# Altium integrated library Sensor.IntLib: 12 symbols
Pins are listed as number, name and electrical type; pins without a type are passive.

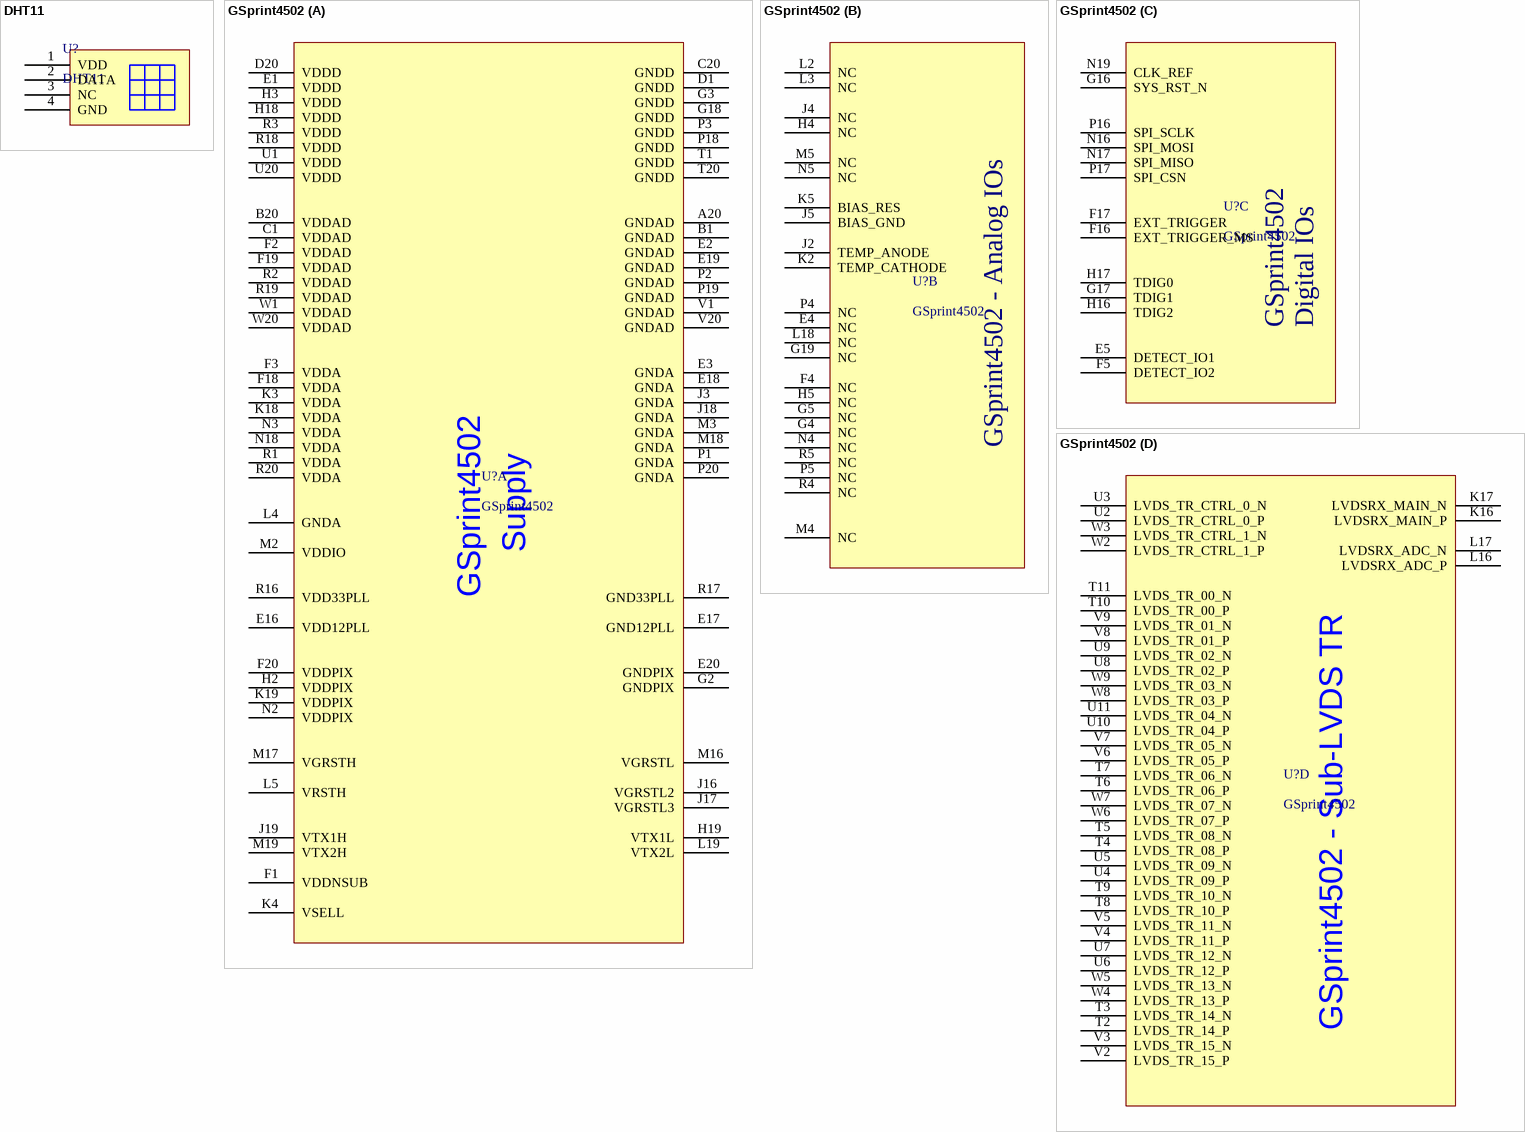
[diagram p0: symbols DHT11 to GSprint4502]

## DHT11
designator U?
温湿度传感器
footprint DHT11
pins: 1 VDD, 2 DATA, 3 NC, 4 GND

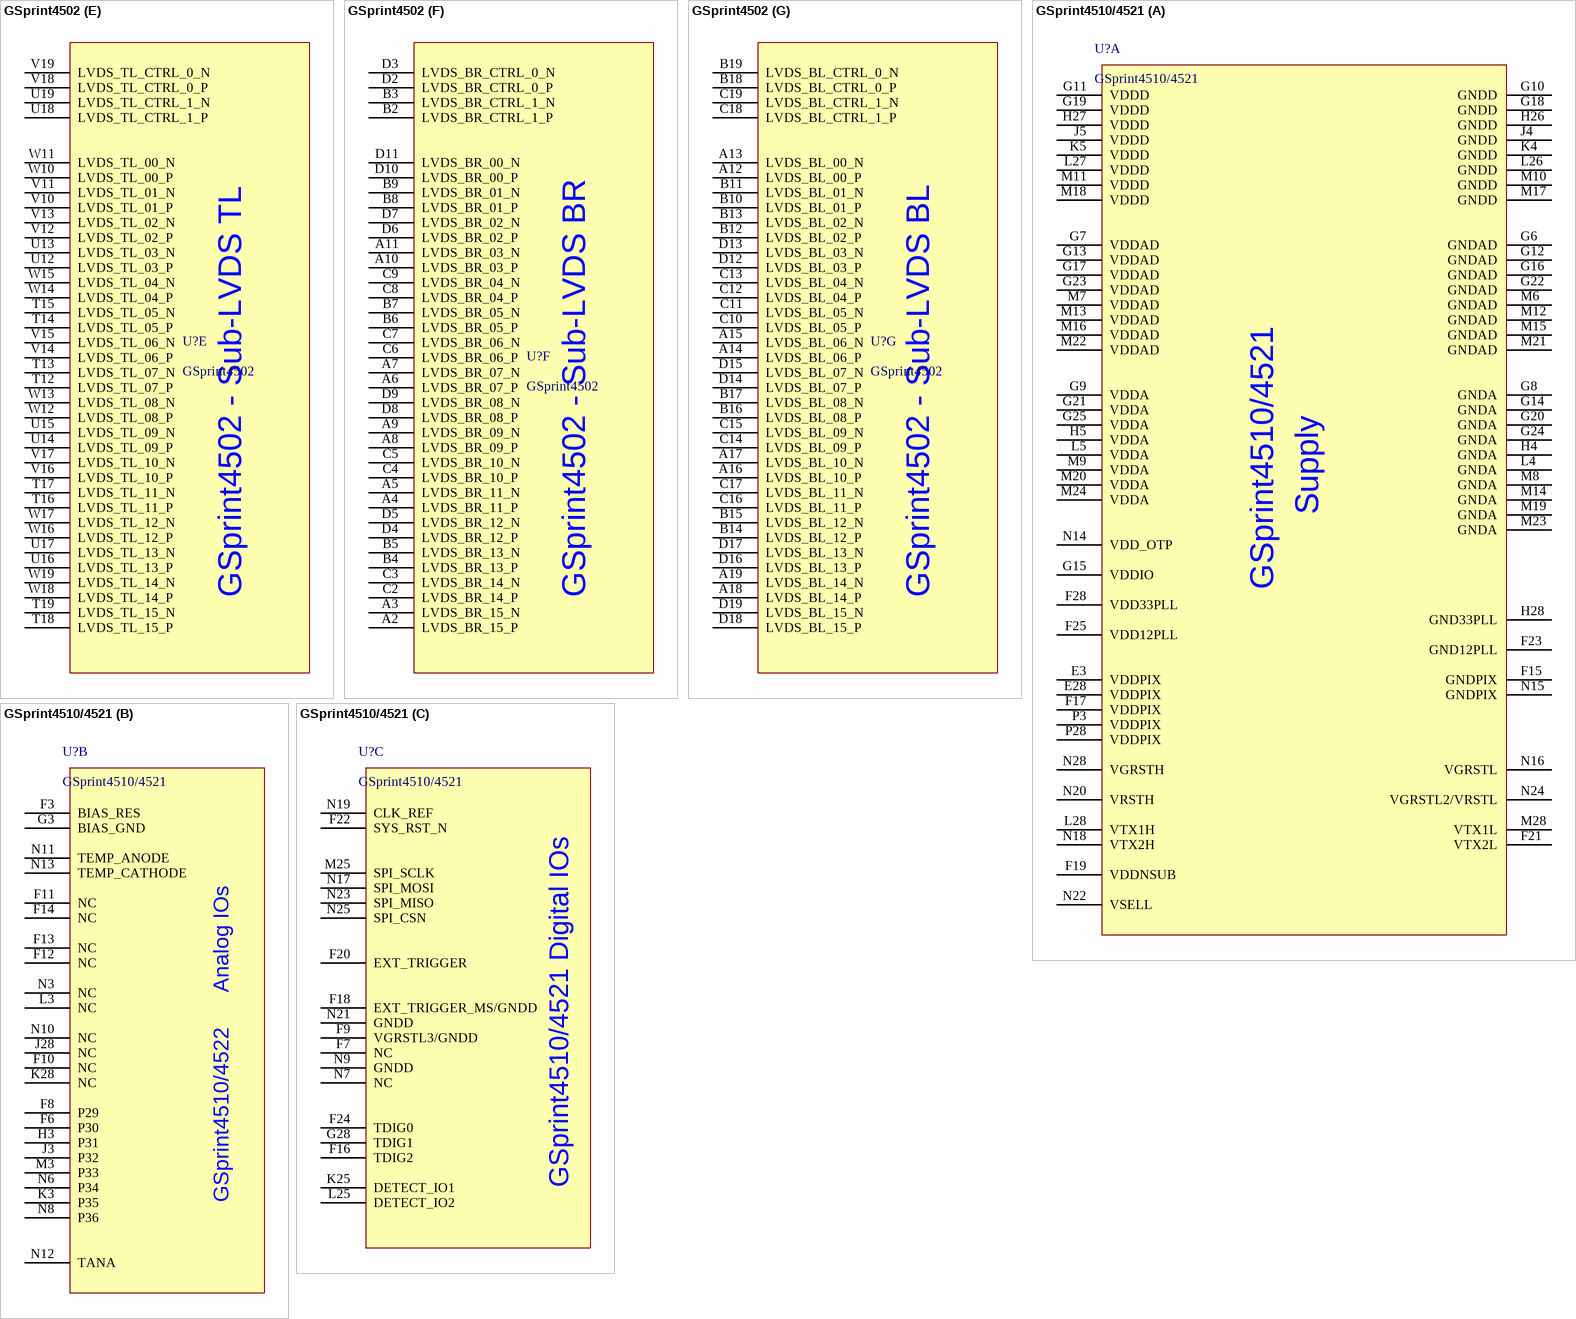
[diagram p1: symbols GSprint4502 to GSprint4510/4521]

## GSprint4502
designator U?
footprint GSprint4502 (BGA, 380-Leads, Body 28.00x29.40mmx3.50mm, Pitch 1.27mm)
part A pins: A20 GNDAD, B1 GNDAD, B20 VDDAD, C1 VDDAD, C20 GNDD, D1 GNDD, D20 VDDD, E1 VDDD, E2 GNDAD, E3 GNDA, E16 VDD12PLL, E17 GND12PLL, E18 GNDA, E19 GNDAD, E20 GNDPIX, F1 VDDNSUB, F2 VDDAD, F3 VDDA, F18 VDDA, F19 VDDAD, F20 VDDPIX, G2 GNDPIX, G3 GNDD, G18 GNDD, H2 VDDPIX, H3 VDDD, H18 VDDD, H19 VTX1L, J3 GNDA, J16 VGRSTL2, J17 VGRSTL3, J18 GNDA, J19 VTX1H, K3 VDDA, K4 VSELL, K18 VDDA, K19 VDDPIX, L4 GNDA, L5 VRSTH, L19 VTX2L, M2 VDDIO, M3 GNDA, M16 VGRSTL, M17 VGRSTH, M18 GNDA, M19 VTX2H, N2 VDDPIX, N3 VDDA, N18 VDDA, P1 GNDA, P2 GNDAD, P3 GNDD, P18 GNDD, P19 GNDAD, P20 GNDA, R1 VDDA, R2 VDDAD, R3 VDDD, R16 VDD33PLL, R17 GND33PLL, R18 VDDD, R19 VDDAD, R20 VDDA, T1 GNDD, T20 GNDD, U1 VDDD, U20 VDDD, V1 GNDAD, V20 GNDAD, W1 VDDAD, W20 VDDAD
part B pins: E4 NC, F4 NC, G4 NC, G5 NC, G19 NC, H4 NC, H5 NC, J2 TEMP_ANODE, J4 NC, J5 BIAS_GND, K2 TEMP_CATHODE, K5 BIAS_RES, L2 NC, L3 NC, L18 NC, M4 NC, M5 NC, N4 NC, N5 NC, P4 NC, P5 NC, R4 NC, R5 NC
part C pins: E5 DETECT_IO1, F5 DETECT_IO2, F16 EXT_TRIGGER_MS, F17 EXT_TRIGGER, G16 SYS_RST_N, G17 TDIG1, H16 TDIG2, H17 TDIG0, N16 SPI_MOSI, N17 SPI_MISO, N19 CLK_REF, P16 SPI_SCLK, P17 SPI_CSN
part D pins: K16 LVDSRX_MAIN_P, K17 LVDSRX_MAIN_N, L16 LVDSRX_ADC_P, L17 LVDSRX_ADC_N, T2 LVDS_TR_14_P, T3 LVDS_TR_14_N, T4 LVDS_TR_08_P, T5 LVDS_TR_08_N, T6 LVDS_TR_06_P, T7 LVDS_TR_06_N, T8 LVDS_TR_10_P, T9 LVDS_TR_10_N, T10 LVDS_TR_00_P, T11 LVDS_TR_00_N, U2 LVDS_TR_CTRL_0_P, U3 LVDS_TR_CTRL_0_N, U4 LVDS_TR_09_P, U5 LVDS_TR_09_N, U6 LVDS_TR_12_P, U7 LVDS_TR_12_N, U8 LVDS_TR_02_P, U9 LVDS_TR_02_N, U10 LVDS_TR_04_P, U11 LVDS_TR_04_N, V2 LVDS_TR_15_P, V3 LVDS_TR_15_N, V4 LVDS_TR_11_P, V5 LVDS_TR_11_N, V6 LVDS_TR_05_P, V7 LVDS_TR_05_N, V8 LVDS_TR_01_P, V9 LVDS_TR_01_N, W2 LVDS_TR_CTRL_1_P, W3 LVDS_TR_CTRL_1_N, W4 LVDS_TR_13_P, W5 LVDS_TR_13_N, W6 LVDS_TR_07_P, W7 LVDS_TR_07_N, W8 LVDS_TR_03_P, W9 LVDS_TR_03_N
part E pins: T12 LVDS_TL_07_P, T13 LVDS_TL_07_N, T14 LVDS_TL_05_P, T15 LVDS_TL_05_N, T16 LVDS_TL_11_P, T17 LVDS_TL_11_N, T18 LVDS_TL_15_P, T19 LVDS_TL_15_N, U12 LVDS_TL_03_P, U13 LVDS_TL_03_N, U14 LVDS_TL_09_P, U15 LVDS_TL_09_N, U16 LVDS_TL_13_P, U17 LVDS_TL_13_N, U18 LVDS_TL_CTRL_1_P, U19 LVDS_TL_CTRL_1_N, V10 LVDS_TL_01_P, V11 LVDS_TL_01_N, V12 LVDS_TL_02_P, V13 LVDS_TL_02_N, V14 LVDS_TL_06_P, V15 LVDS_TL_06_N, V16 LVDS_TL_10_P, V17 LVDS_TL_10_N, V18 LVDS_TL_CTRL_0_P, V19 LVDS_TL_CTRL_0_N, W10 LVDS_TL_00_P, W11 LVDS_TL_00_N, W12 LVDS_TL_08_P, W13 LVDS_TL_08_N, W14 LVDS_TL_04_P, W15 LVDS_TL_04_N, W16 LVDS_TL_12_P, W17 LVDS_TL_12_N, W18 LVDS_TL_14_P, W19 LVDS_TL_14_N
part F pins: A2 LVDS_BR_15_P, A3 LVDS_BR_15_N, A4 LVDS_BR_11_P, A5 LVDS_BR_11_N, A6 LVDS_BR_07_P, A7 LVDS_BR_07_N, A8 LVDS_BR_09_P, A9 LVDS_BR_09_N, A10 LVDS_BR_03_P, A11 LVDS_BR_03_N, B2 LVDS_BR_CTRL_1_P, B3 LVDS_BR_CTRL_1_N, B4 LVDS_BR_13_P, B5 LVDS_BR_13_N, B6 LVDS_BR_05_P, B7 LVDS_BR_05_N, B8 LVDS_BR_01_P, B9 LVDS_BR_01_N, C2 LVDS_BR_14_P, C3 LVDS_BR_14_N, C4 LVDS_BR_10_P, C5 LVDS_BR_10_N, C6 LVDS_BR_06_P, C7 LVDS_BR_06_N, C8 LVDS_BR_04_P, C9 LVDS_BR_04_N, D2 LVDS_BR_CTRL_0_P, D3 LVDS_BR_CTRL_0_N, D4 LVDS_BR_12_P, D5 LVDS_BR_12_N, D6 LVDS_BR_02_P, D7 LVDS_BR_02_N, D8 LVDS_BR_08_P, D9 LVDS_BR_08_N, D10 LVDS_BR_00_P, D11 LVDS_BR_00_N
part G pins: A12 LVDS_BL_00_P, A13 LVDS_BL_00_N, A14 LVDS_BL_06_P, A15 LVDS_BL_06_N, A16 LVDS_BL_10_P, A17 LVDS_BL_10_N, A18 LVDS_BL_14_P, A19 LVDS_BL_14_N, B10 LVDS_BL_01_P, B11 LVDS_BL_01_N, B12 LVDS_BL_02_P, B13 LVDS_BL_02_N, B14 LVDS_BL_12_P, B15 LVDS_BL_12_N, B16 LVDS_BL_08_P, B17 LVDS_BL_08_N, B18 LVDS_BL_CTRL_0_P, B19 LVDS_BL_CTRL_0_N, C10 LVDS_BL_05_P, C11 LVDS_BL_05_N, C12 LVDS_BL_04_P, C13 LVDS_BL_04_N, C14 LVDS_BL_09_P, C15 LVDS_BL_09_N, C16 LVDS_BL_11_P, C17 LVDS_BL_11_N, C18 LVDS_BL_CTRL_1_P, C19 LVDS_BL_CTRL_1_N, D12 LVDS_BL_03_P, D13 LVDS_BL_03_N, D14 LVDS_BL_07_P, D15 LVDS_BL_07_N, D16 LVDS_BL_13_P, D17 LVDS_BL_13_N, D18 LVDS_BL_15_P, D19 LVDS_BL_15_N
part A text: Supply
part B text: GSprint4502 - Analog IOs
part C text: Digital IOs
part D text: GSprint4502 - Sub-LVDS TR
part E text: GSprint4502 - Sub-LVDS TL
part F text: GSprint4502 - Sub-LVDS BR
part G text: GSprint4502 - Sub-LVDS BL

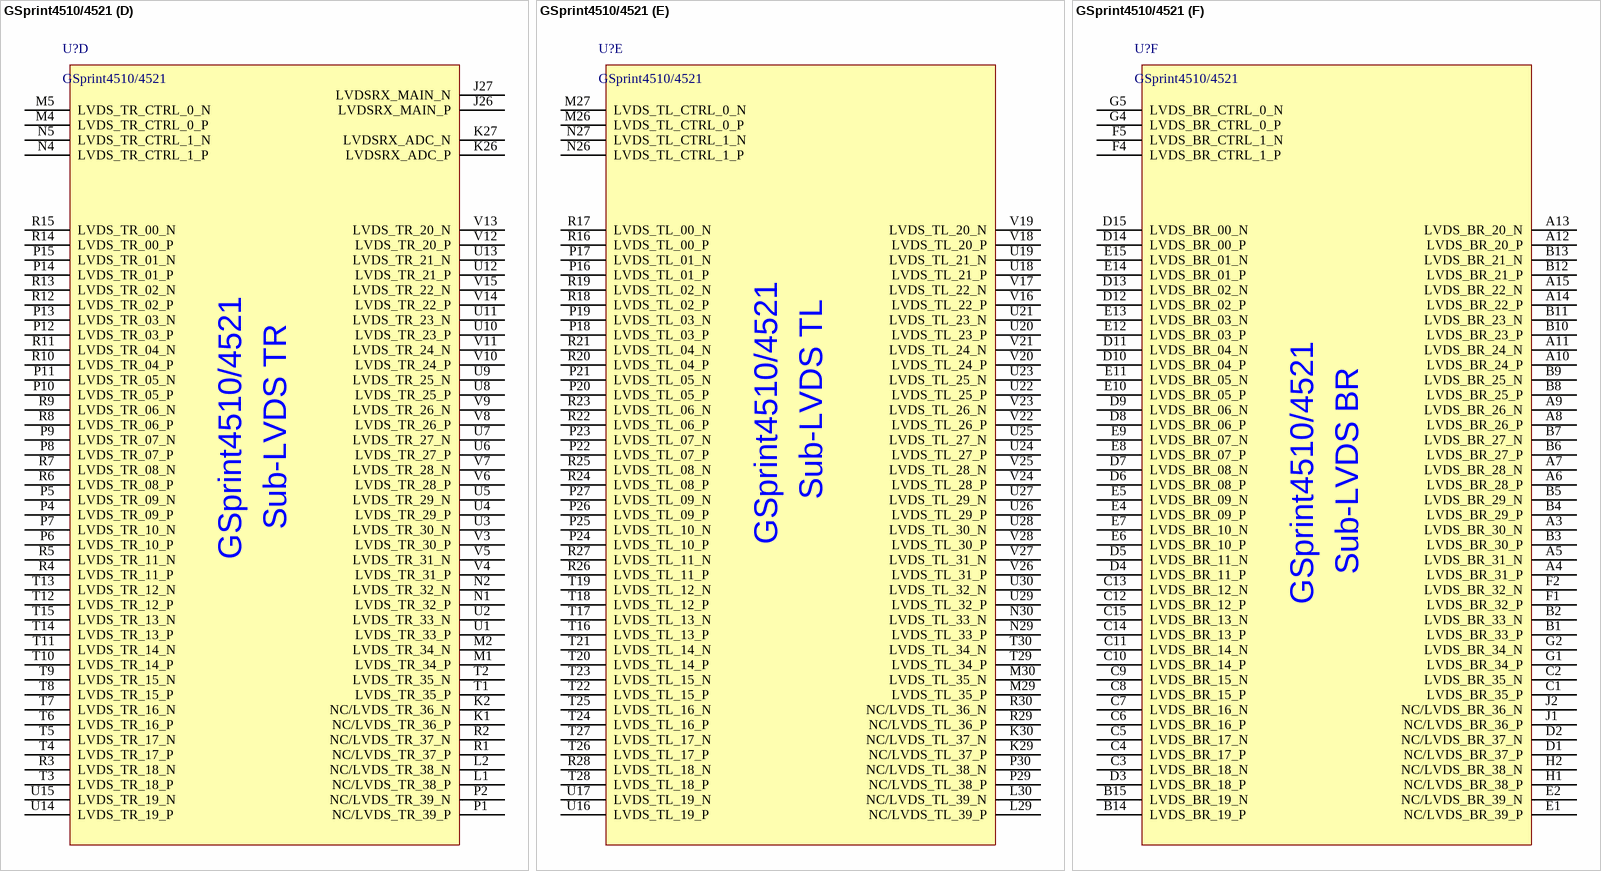
[diagram p2: symbol GSprint4510/4521]

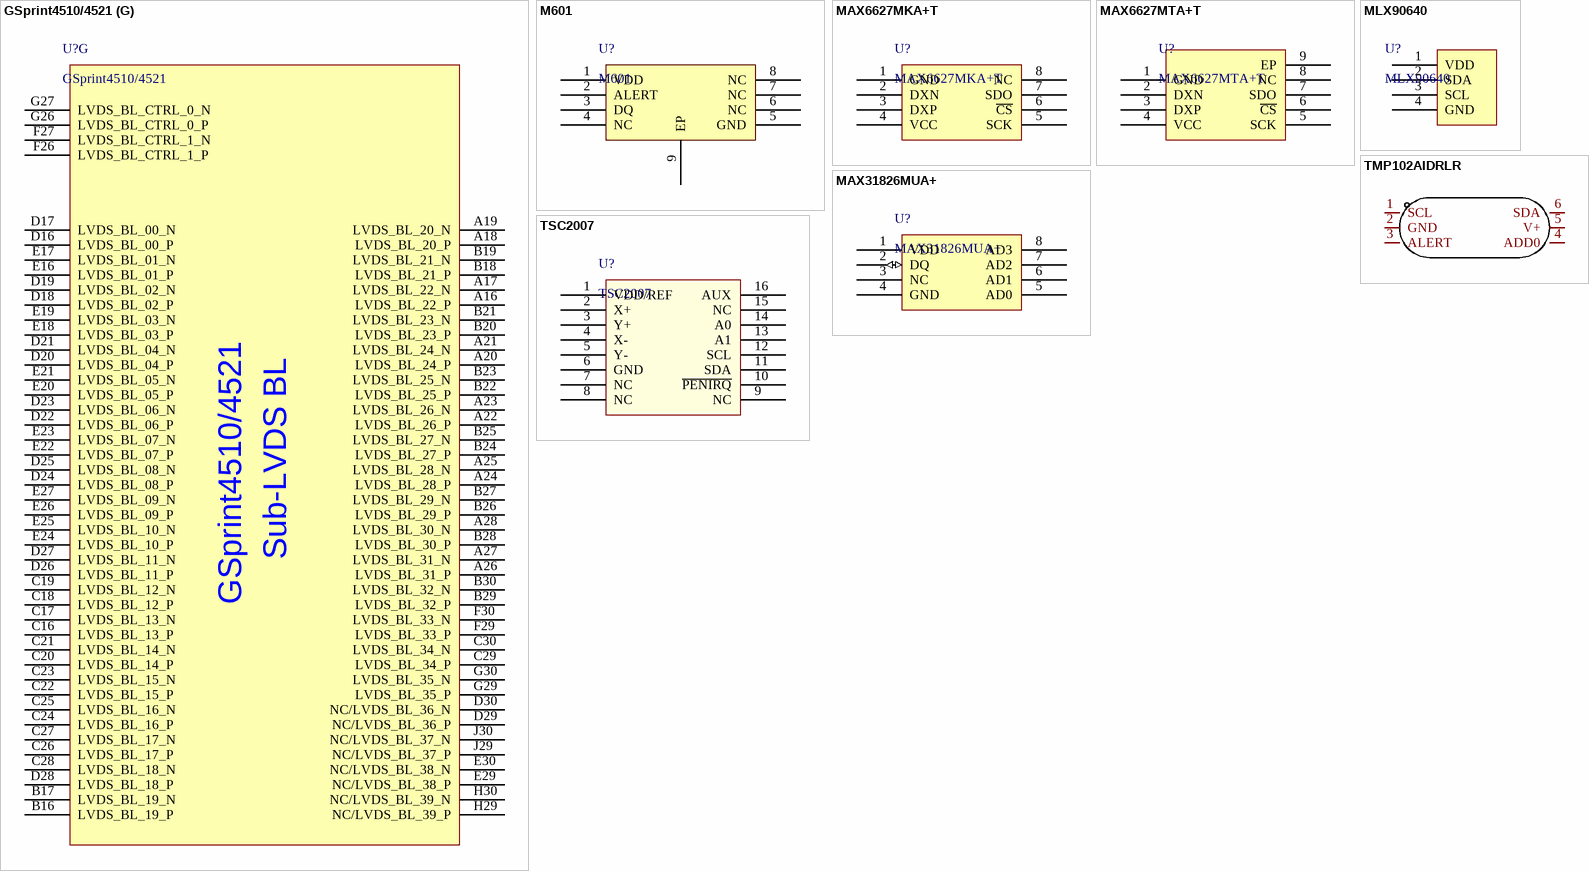
[diagram p3: symbols GSprint4510/4521 to TSC2007]

## GSprint4510/4521
designator U?
footprint GSprint4510/4521 (BGA, 100-Leads, Body 42.00x34.00mmx1.40mm, Pitch 1.27mm)
part A pins: E3 VDDPIX, E28 VDDPIX, F15 GNDPIX, F17 VDDPIX, F19 VDDNSUB, F21 VTX2L, F23 GND12PLL, F25 VDD12PLL, F28 VDD33PLL, G6 GNDAD, G7 VDDAD, G8 GNDA, G9 VDDA, G10 GNDD, G11 VDDD, G12 GNDAD, G13 VDDAD, G14 GNDA, G15 VDDIO, G16 GNDAD, G17 VDDAD, G18 GNDD, G19 VDDD, G20 GNDA, G21 VDDA, G22 GNDAD, G23 VDDAD, G24 GNDA, G25 VDDA, H4 GNDA, H5 VDDA, H26 GNDD, H27 VDDD, H28 GND33PLL, J4 GNDD, J5 VDDD, K4 GNDD, K5 VDDD, L4 GNDA, L5 VDDA, L26 GNDD, L27 VDDD, L28 VTX1H, M6 GNDAD, M7 VDDAD, M8 GNDA, M9 VDDA, M10 GNDD, M11 VDDD, M12 GNDAD, M13 VDDAD, M14 GNDA, M15 GNDAD, M16 VDDAD, M17 GNDD, M18 VDDD, M19 GNDA, M20 VDDA, M21 GNDAD, M22 VDDAD, M23 GNDA, M24 VDDA, M28 VTX1L, N14 VDD_OTP, N15 GNDPIX, N16 VGRSTL, N18 VTX2H, N20 VRSTH, N22 VSELL, N24 VGRSTL2/VRSTL, N28 VGRSTH, P3 VDDPIX, P28 VDDPIX
part B pins: F3 BIAS_RES, F6 P30, F8 P29, F10 NC, F11 NC, F12 NC, F13 NC, F14 NC, G3 BIAS_GND, H3 P31, J3 P32, J28 NC, K3 P35, K28 NC, L3 NC, M3 P33, N3 NC, N6 P34, N8 P36, N10 NC, N11 TEMP_ANODE, N12 TANA, N13 TEMP_CATHODE
part C pins: F7 NC, F9 VGRSTL3/GNDD, F16 TDIG2, F18 EXT_TRIGGER_MS/GNDD, F20 EXT_TRIGGER, F22 SYS_RST_N, F24 TDIG0, G28 TDIG1, K25 DETECT_IO1, L25 DETECT_IO2, M25 SPI_SCLK, N7 NC, N9 GNDD, N17 SPI_MOSI, N19 CLK_REF, N21 GNDD, N23 SPI_MISO, N25 SPI_CSN
part D pins: J26 LVDSRX_MAIN_P, J27 LVDSRX_MAIN_N, K1 NC/LVDS_TR_36_P, K2 NC/LVDS_TR_36_N, K26 LVDSRX_ADC_P, K27 LVDSRX_ADC_N, L1 NC/LVDS_TR_38_P, L2 NC/LVDS_TR_38_N, M1 LVDS_TR_34_P, M2 LVDS_TR_34_N, M4 LVDS_TR_CTRL_0_P, M5 LVDS_TR_CTRL_0_N, N1 LVDS_TR_32_P, N2 LVDS_TR_32_N, N4 LVDS_TR_CTRL_1_P, N5 LVDS_TR_CTRL_1_N, P1 NC/LVDS_TR_39_P, P2 NC/LVDS_TR_39_N, P4 LVDS_TR_09_P, P5 LVDS_TR_09_N, P6 LVDS_TR_10_P, P7 LVDS_TR_10_N, P8 LVDS_TR_07_P, P9 LVDS_TR_07_N, P10 LVDS_TR_05_P, P11 LVDS_TR_05_N, P12 LVDS_TR_03_P, P13 LVDS_TR_03_N, P14 LVDS_TR_01_P, P15 LVDS_TR_01_N, R1 NC/LVDS_TR_37_P, R2 NC/LVDS_TR_37_N, R3 LVDS_TR_18_N, R4 LVDS_TR_11_P, R5 LVDS_TR_11_N, R6 LVDS_TR_08_P, R7 LVDS_TR_08_N, R8 LVDS_TR_06_P, R9 LVDS_TR_06_N, R10 LVDS_TR_04_P, R11 LVDS_TR_04_N, R12 LVDS_TR_02_P, R13 LVDS_TR_02_N, R14 LVDS_TR_00_P, R15 LVDS_TR_00_N, T1 LVDS_TR_35_P, T2 LVDS_TR_35_N, T3 LVDS_TR_18_P, T4 LVDS_TR_17_P, T5 LVDS_TR_17_N, T6 LVDS_TR_16_P, T7 LVDS_TR_16_N, T8 LVDS_TR_15_P, T9 LVDS_TR_15_N, T10 LVDS_TR_14_P, T11 LVDS_TR_14_N, T12 LVDS_TR_12_P, T13 LVDS_TR_12_N, T14 LVDS_TR_13_P, T15 LVDS_TR_13_N, U1 LVDS_TR_33_P, U2 LVDS_TR_33_N, U3 LVDS_TR_30_N, U4 LVDS_TR_29_P, U5 LVDS_TR_29_N, U6 LVDS_TR_27_P, U7 LVDS_TR_27_N, U8 LVDS_TR_25_P, U9 LVDS_TR_25_N, U10 LVDS_TR_23_P, U11 LVDS_TR_23_N, U12 LVDS_TR_21_P, U13 LVDS_TR_21_N, U14 LVDS_TR_19_P, U15 LVDS_TR_19_N, V3 LVDS_TR_30_P, V4 LVDS_TR_31_P, V5 LVDS_TR_31_N, V6 LVDS_TR_28_P, V7 LVDS_TR_28_N, V8 LVDS_TR_26_P, V9 LVDS_TR_26_N, V10 LVDS_TR_24_P, V11 LVDS_TR_24_N, V12 LVDS_TR_20_P, V13 LVDS_TR_20_N, V14 LVDS_TR_22_P, V15 LVDS_TR_22_N
part E pins: K29 NC/LVDS_TL_37_P, K30 NC/LVDS_TL_37_N, L29 NC/LVDS_TL_39_P, L30 NC/LVDS_TL_39_N, M26 LVDS_TL_CTRL_0_P, M27 LVDS_TL_CTRL_0_N, M29 LVDS_TL_35_P, M30 LVDS_TL_35_N, N26 LVDS_TL_CTRL_1_P, N27 LVDS_TL_CTRL_1_N, N29 LVDS_TL_33_P, N30 LVDS_TL_33_N, P16 LVDS_TL_01_P, P17 LVDS_TL_01_N, P18 LVDS_TL_03_P, P19 LVDS_TL_03_N, P20 LVDS_TL_05_P, P21 LVDS_TL_05_N, P22 LVDS_TL_07_P, P23 LVDS_TL_07_N, P24 LVDS_TL_10_P, P25 LVDS_TL_10_N, P26 LVDS_TL_09_P, P27 LVDS_TL_09_N, P29 NC/LVDS_TL_38_P, P30 NC/LVDS_TL_38_N, R16 LVDS_TL_00_P, R17 LVDS_TL_00_N, R18 LVDS_TL_02_P, R19 LVDS_TL_02_N, R20 LVDS_TL_04_P, R21 LVDS_TL_04_N, R22 LVDS_TL_06_P, R23 LVDS_TL_06_N, R24 LVDS_TL_08_P, R25 LVDS_TL_08_N, R26 LVDS_TL_11_P, R27 LVDS_TL_11_N, R28 LVDS_TL_18_N, R29 NC/LVDS_TL_36_P, R30 NC/LVDS_TL_36_N, T16 LVDS_TL_13_P, T17 LVDS_TL_13_N, T18 LVDS_TL_12_P, T19 LVDS_TL_12_N, T20 LVDS_TL_14_P, T21 LVDS_TL_14_N, T22 LVDS_TL_15_P, T23 LVDS_TL_15_N, T24 LVDS_TL_16_P, T25 LVDS_TL_16_N, T26 LVDS_TL_17_P, T27 LVDS_TL_17_N, T28 LVDS_TL_18_P, T29 LVDS_TL_34_P, T30 LVDS_TL_34_N, U16 LVDS_TL_19_P, U17 LVDS_TL_19_N, U18 LVDS_TL_21_P, U19 LVDS_TL_21_N, U20 LVDS_TL_23_P, U21 LVDS_TL_23_N, U22 LVDS_TL_25_P, U23 LVDS_TL_25_N, U24 LVDS_TL_27_P, U25 LVDS_TL_27_N, U26 LVDS_TL_29_P, U27 LVDS_TL_29_N, U28 LVDS_TL_30_N, U29 LVDS_TL_32_P, U30 LVDS_TL_32_N, V16 LVDS_TL_22_P, V17 LVDS_TL_22_N, V18 LVDS_TL_20_P, V19 LVDS_TL_20_N, V20 LVDS_TL_24_P, V21 LVDS_TL_24_N, V22 LVDS_TL_26_P, V23 LVDS_TL_26_N, V24 LVDS_TL_28_P, V25 LVDS_TL_28_N, V26 LVDS_TL_31_P, V27 LVDS_TL_31_N, V28 LVDS_TL_30_P
part F pins: A3 LVDS_BR_30_N, A4 LVDS_BR_31_P, A5 LVDS_BR_31_N, A6 LVDS_BR_28_P, A7 LVDS_BR_28_N, A8 LVDS_BR_26_P, A9 LVDS_BR_26_N, A10 LVDS_BR_24_P, A11 LVDS_BR_24_N, A12 LVDS_BR_20_P, A13 LVDS_BR_20_N, A14 LVDS_BR_22_P, A15 LVDS_BR_22_N, B1 LVDS_BR_33_P, B2 LVDS_BR_33_N, B3 LVDS_BR_30_P, B4 LVDS_BR_29_P, B5 LVDS_BR_29_N, B6 LVDS_BR_27_P, B7 LVDS_BR_27_N, B8 LVDS_BR_25_P, B9 LVDS_BR_25_N, B10 LVDS_BR_23_P, B11 LVDS_BR_23_N, B12 LVDS_BR_21_P, B13 LVDS_BR_21_N, B14 LVDS_BR_19_P, B15 LVDS_BR_19_N, C1 LVDS_BR_35_P, C2 LVDS_BR_35_N, C3 LVDS_BR_18_N, C4 LVDS_BR_17_P, C5 LVDS_BR_17_N, C6 LVDS_BR_16_P, C7 LVDS_BR_16_N, C8 LVDS_BR_15_P, C9 LVDS_BR_15_N, C10 LVDS_BR_14_P, C11 LVDS_BR_14_N, C12 LVDS_BR_12_P, C13 LVDS_BR_12_N, C14 LVDS_BR_13_P, C15 LVDS_BR_13_N, D1 NC/LVDS_BR_37_P, D2 NC/LVDS_BR_37_N, D3 LVDS_BR_18_P, D4 LVDS_BR_11_P, D5 LVDS_BR_11_N, D6 LVDS_BR_08_P, D7 LVDS_BR_08_N, D8 LVDS_BR_06_P, D9 LVDS_BR_06_N, D10 LVDS_BR_04_P, D11 LVDS_BR_04_N, D12 LVDS_BR_02_P, D13 LVDS_BR_02_N, D14 LVDS_BR_00_P, D15 LVDS_BR_00_N, E1 NC/LVDS_BR_39_P, E2 NC/LVDS_BR_39_N, E4 LVDS_BR_09_P, E5 LVDS_BR_09_N, E6 LVDS_BR_10_P, E7 LVDS_BR_10_N, E8 LVDS_BR_07_P, E9 LVDS_BR_07_N, E10 LVDS_BR_05_P, E11 LVDS_BR_05_N, E12 LVDS_BR_03_P, E13 LVDS_BR_03_N, E14 LVDS_BR_01_P, E15 LVDS_BR_01_N, F1 LVDS_BR_32_P, F2 LVDS_BR_32_N, F4 LVDS_BR_CTRL_1_P, F5 LVDS_BR_CTRL_1_N, G1 LVDS_BR_34_P, G2 LVDS_BR_34_N, G4 LVDS_BR_CTRL_0_P, G5 LVDS_BR_CTRL_0_N, H1 NC/LVDS_BR_38_P, H2 NC/LVDS_BR_38_N, J1 NC/LVDS_BR_36_P, J2 NC/LVDS_BR_36_N
part G pins: A16 LVDS_BL_22_P, A17 LVDS_BL_22_N, A18 LVDS_BL_20_P, A19 LVDS_BL_20_N, A20 LVDS_BL_24_P, A21 LVDS_BL_24_N, A22 LVDS_BL_26_P, A23 LVDS_BL_26_N, A24 LVDS_BL_28_P, A25 LVDS_BL_28_N, A26 LVDS_BL_31_P, A27 LVDS_BL_31_N, A28 LVDS_BL_30_N, B16 LVDS_BL_19_P, B17 LVDS_BL_19_N, B18 LVDS_BL_21_P, B19 LVDS_BL_21_N, B20 LVDS_BL_23_P, B21 LVDS_BL_23_N, B22 LVDS_BL_25_P, B23 LVDS_BL_25_N, B24 LVDS_BL_27_P, B25 LVDS_BL_27_N, B26 LVDS_BL_29_P, B27 LVDS_BL_29_N, B28 LVDS_BL_30_P, B29 LVDS_BL_32_P, B30 LVDS_BL_32_N, C16 LVDS_BL_13_P, C17 LVDS_BL_13_N, C18 LVDS_BL_12_P, C19 LVDS_BL_12_N, C20 LVDS_BL_14_P, C21 LVDS_BL_14_N, C22 LVDS_BL_15_P, C23 LVDS_BL_15_N, C24 LVDS_BL_16_P, C25 LVDS_BL_16_N, C26 LVDS_BL_17_P, C27 LVDS_BL_17_N, C28 LVDS_BL_18_N, C29 LVDS_BL_34_P, C30 LVDS_BL_34_N, D16 LVDS_BL_00_P, D17 LVDS_BL_00_N, D18 LVDS_BL_02_P, D19 LVDS_BL_02_N, D20 LVDS_BL_04_P, D21 LVDS_BL_04_N, D22 LVDS_BL_06_P, D23 LVDS_BL_06_N, D24 LVDS_BL_08_P, D25 LVDS_BL_08_N, D26 LVDS_BL_11_P, D27 LVDS_BL_11_N, D28 LVDS_BL_18_P, D29 NC/LVDS_BL_36_P, D30 NC/LVDS_BL_36_N, E16 LVDS_BL_01_P, E17 LVDS_BL_01_N, E18 LVDS_BL_03_P, E19 LVDS_BL_03_N, E20 LVDS_BL_05_P, E21 LVDS_BL_05_N, E22 LVDS_BL_07_P, E23 LVDS_BL_07_N, E24 LVDS_BL_10_P, E25 LVDS_BL_10_N, E26 LVDS_BL_09_P, E27 LVDS_BL_09_N, E29 NC/LVDS_BL_38_P, E30 NC/LVDS_BL_38_N, F26 LVDS_BL_CTRL_1_P, F27 LVDS_BL_CTRL_1_N, F29 LVDS_BL_33_P, F30 LVDS_BL_33_N, G26 LVDS_BL_CTRL_0_P, G27 LVDS_BL_CTRL_0_N, G29 LVDS_BL_35_P, G30 LVDS_BL_35_N, H29 NC/LVDS_BL_39_P, H30 NC/LVDS_BL_39_N, J29 NC/LVDS_BL_37_P, J30 NC/LVDS_BL_37_N
part A text: Supply
part B text: Analog IOs; GSprint4510/4522
part C text: GSprint4510/4521 Digital IOs
part D text: Sub-LVDS TR
part E text: Sub-LVDS TL
part F text: Sub-LVDS BR
part G text: Sub-LVDS BL

## M601
designator U?
0.1℃单总线数字温度传感器
footprint DFN-8-1EP_2x2mm_P0.5mm_EP1.6x0.78mm (SON, 8-Leads, Body 2.00x2.00mm, Pitch 0.50mm, Thermal Pad 1.60x0.78mm, IPC Medium Density)
pins: 1 VDD, 2 ALERT, 3 DQ, 4 NC, 5 GND, 6 NC, 7 NC, 8 NC, 9 EP

## MAX6627MKA+T
designator U?
Remote ±1°C Accurate Digital Temperature Sensors with SPI-Compatible Serial Interface
footprint SOT-23-8L (TSOP, 8-Leads, Body 2.90x1.63mm, Pitch 0.65mm, IPC Medium Density)
pins: 1 GND, 2 DXN, 3 DXP, 4 VCC, 5 SCK, 6 ~{CS}, 7 SDO, 8 NC

## MAX6627MTA+T
designator U?
Remote ±1°C Accurate Digital Temperature Sensors with SPI-Compatible Serial Interface
footprint TDFN-8_L3.0-W3.0-P0.65-BL-EP
pins: 1 GND, 2 DXN, 3 DXP, 4 VCC, 5 SCK, 6 ~{CS}, 7 SDO, 8 NC, 9 EP

## MAX31826MUA+
designator U?
1-Wire Digital Temperature Sensor with 1Kb Lockable EEPROM
footprint SSOP-8_3x3mm_P0.65mm (TSOP, 8-Leads, Body 3.00x3.00mm, Pitch 0.65mm, IPC Medium Density)
pins: 1 VDD, 2 DQ (io), 3 NC, 4 GND, 5 AD0, 6 AD1, 7 AD2, 8 AD3

## MLX90640
designator U?
footprint MLX90640
pins: 1 VDD, 2 SDA, 3 SCL, 4 GND

## TMP102AIDRLR
designator U?  (value not drawn)
Manufacturer: TI(德州仪器); Add into BOM: yes; Name: TMP102AIDRLR; Symbol: TMP102AIDRLR; Device: TMP102AIDRLR; LCSC Part Name: TMP102AIDRLR; Supplier Part: C99269; Manufacturer Part: TMP102AIDRLR; Supplier Footprint: SOT-563; JLCPCB Part Class: Extended Part; Datasheet: https://atta.szlcsc.com/upload/public/pdf/source/20180326/C99269_1661C4874DBAE013D70E23A9823CFF59.pdf; Supplier: LCSC; Convert to PCB: yes; Sensor Type: -; Output Type: -; Sensing Temperature-Local: -; Sensing Temperature-remote: -; Resolution: -; Features: -; Voltage-Supply: -; Accuracy-Highest(lowest): -; Operating Temperature: -
footprint SOT-563 (SOTFL, 6-Leads, Body 1.70x1.70mm, Pitch 0.50mm, IPC Medium Density)
pins: 1 SCL, 2 GND, 3 ALERT, 4 ADD0, 5 V+, 6 SDA

## TSC2007
designator U?
1.2V to 3.6V, 12-Bit, Nanopower, 4-Wire Micro TOUCH SCREEN CONTROLLER with I2C™ Interface
footprint SSOP-16_4.4x5mm_P0.65 (TSOP, 16-Leads, Body 5.00x4.40mm, Pitch 0.65mm, Thermal Pad 3.30x3.30mm, IPC Medium Density)
pins: 1 VDD/REF, 2 X+, 3 Y+, 4 X-, 5 Y-, 6 GND, 7 NC, 8 NC, 9 NC, 10 ~{PENIRQ}, 11 SDA, 12 SCL, 13 A1, 14 A0, 15 NC, 16 AUX


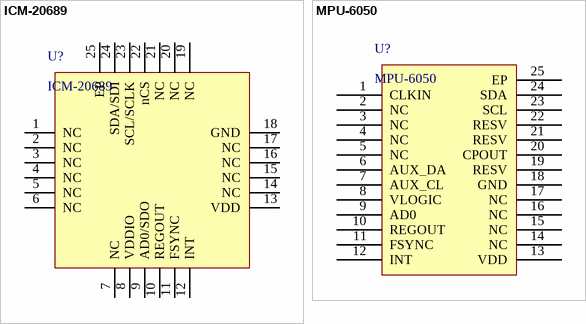
[diagram p4: symbols ICM-20689 to MPU-6050]

## ICM-20689
designator U?
footprint QFN-24-1EP_4x4_P0.5mm_EP2.7x2.7mm (QFN, 24-Leads, Body 4.00x4.00mm, Pitch 0.50mm, Thermal Pad 2.7x2.7mm, IPC Low Density)
pins: 1 NC, 2 NC, 3 NC, 4 NC, 5 NC, 6 NC, 7 NC, 8 VDDIO, 9 AD0/SDO, 10 REGOUT, 11 FSYNC, 12 INT, 13 VDD, 14 NC, 15 NC, 16 NC, 17 NC, 18 GND, 19 NC, 20 NC, 21 NC, 22 nCS, 23 SCL/SCLK, 24 SDA/SDI, 25 EP

## MPU-6050
designator U?
InvenSense 6-Axis Motion Sensor, Gyroscope, Accelerometer, I2C
footprint QFN-24-1EP_4x4_P0.5mm_EP2.45x2.45mm (QFN, 24-Leads, Body 4.00x4.00mm, Pitch 0.50mm, Thermal Pad 2.45x2.45mm, IPC Low Density)
pins: 1 CLKIN, 2 NC, 3 NC, 4 NC, 5 NC, 6 AUX_DA, 7 AUX_CL, 8 VLOGIC, 9 AD0, 10 REGOUT, 11 FSYNC, 12 INT, 13 VDD, 14 NC, 15 NC, 16 NC, 17 NC, 18 GND, 19 RESV, 20 CPOUT, 21 RESV, 22 RESV, 23 SCL, 24 SDA, 25 EP